# Altium integrated library ST Audio Surround Sound Processor.IntLib: 10 symbols
Pins are listed as number, name and electrical type; pins without a type are passive.

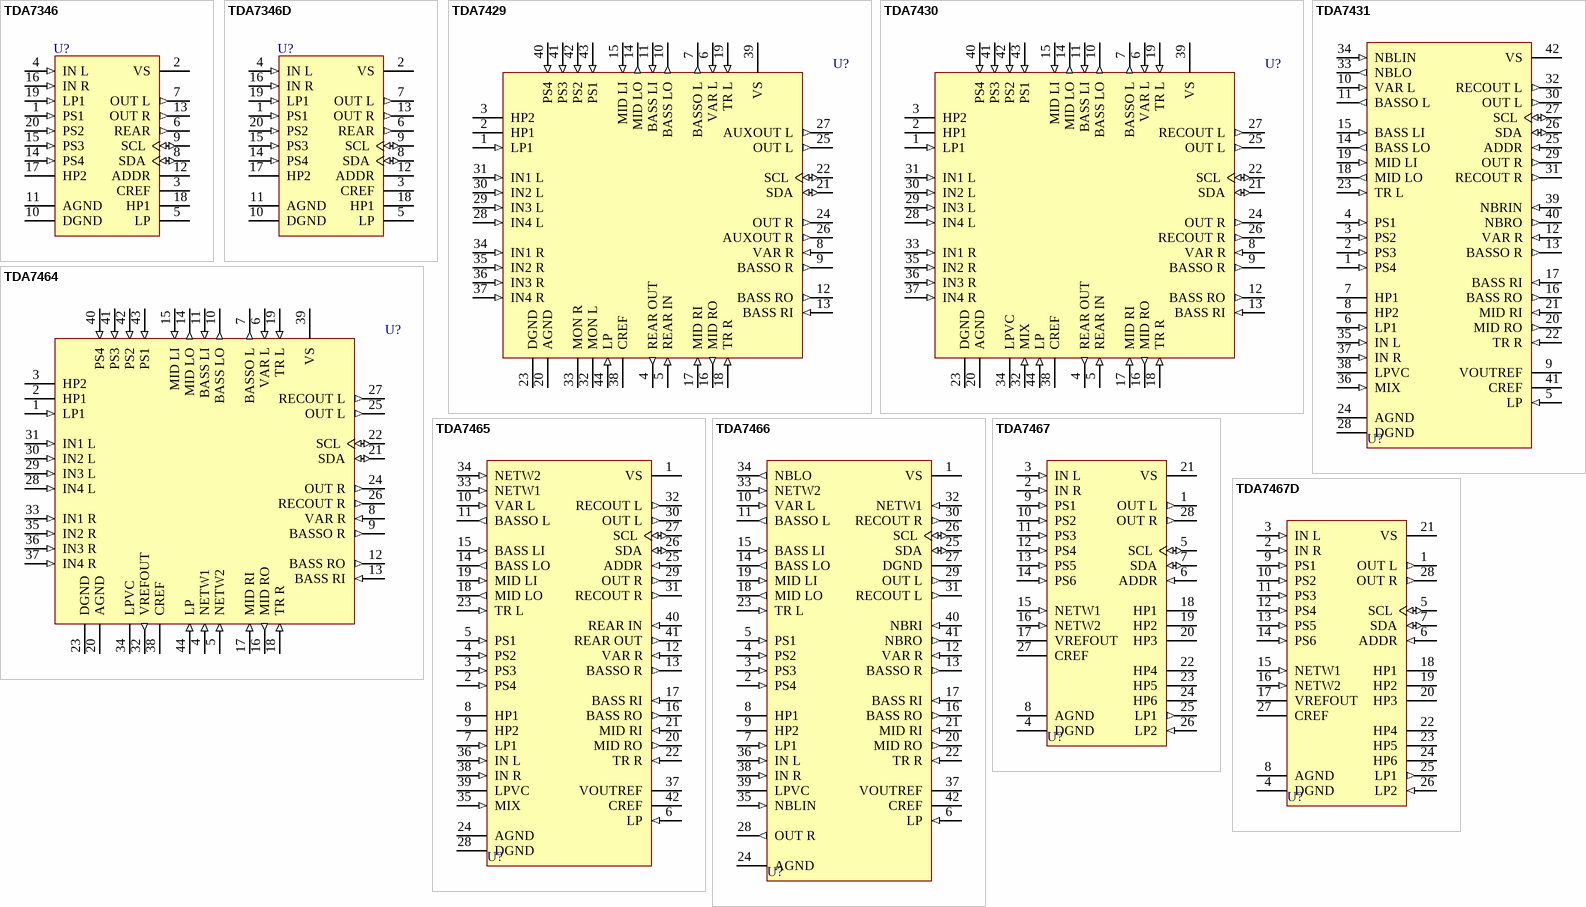
[diagram p0: symbols TDA7346 to TDA7467D]

## TDA7346
designator U?
Digital-Controlled Surround Sound Matrix; Published: 24-Aug-2001; LatestRevisionDate: 17-Jul-2002; LatestRevisionNote: Re-released for DXP Platform.; DatasheetDocument: Feb-1997; PackageDocument: Jun-1998; PackageReference: DIP20; Publisher: Altium Limited; Code_JEDEC: MS-015-AE
footprint DIP20 (DIP; 20 Leads; Row Spacing 7.62 mm; Pitch 2.54 mm)
pins: 1 PS1 (in), 2 VS (power), 3 CREF, 4 IN L (in), 5 LP, 6 REAR (out), 7 OUT L (out), 8 SDA (io), 9 SCL (io), 10 DGND (power), 11 AGND (power), 12 ADDR, 13 OUT R (out), 14 PS4 (in), 15 PS3 (in), 16 IN R (in), 17 HP2, 18 HP1, 19 LP1 (in), 20 PS2 (in)

## TDA7346D
designator U?
Digital-Controlled Surround Sound Matrix; Published: 24-Aug-2001; LatestRevisionDate: 17-Jul-2002; LatestRevisionNote: Re-released for DXP Platform.; DatasheetDocument: Feb-1997; PackageDocument: Jul-2001; PackageReference: SO20; Publisher: Altium Limited; Code_JEDEC: MS-013-AC; Code_IPC: SO20W
footprint SO20 (Small Outline, Plastic; 20 Leads; Body Width 7.5 mm; Pitch 1.27 mm)
pins: 1 PS1 (in), 2 VS (power), 3 CREF, 4 IN L (in), 5 LP, 6 REAR (out), 7 OUT L (out), 8 SDA (io), 9 SCL (io), 10 DGND (power), 11 AGND (power), 12 ADDR, 13 OUT R (out), 14 PS4 (in), 15 PS3 (in), 16 IN R (in), 17 HP2, 18 HP1, 19 LP1 (in), 20 PS2 (in)

## TDA7429
designator U?
Digital-Controlled Audio Processor with Surround Sound Matrix; Published: 24-Aug-2001; LatestRevisionDate: 17-Jul-2002; LatestRevisionNote: Re-released for DXP Platform.; DatasheetDocument: Nov-1996; PackageDocument: Oct-1997; PackageReference: TQFP44-10X10; Publisher: Altium Limited
footprint TQFP44-10X10 (QFP; 44 Leads; Body 10 x 10 mm; Pitch 0.8 mm)
pins: 1 LP1 (in), 2 HP1, 3 HP2, 4 REAR OUT (out), 5 REAR IN (in), 6 VAR L (in), 7 BASSO L (out), 8 VAR R (in), 9 BASSO R (out), 10 BASS LO (out), 11 BASS LI (in), 12 BASS RO (out), 13 BASS RI (in), 14 MID LO (out), 15 MID LI (in), 16 MID RO (out), 17 MID RI (in), 18 TR R (in), 19 TR L (in), 20 AGND (power), 21 SDA (io), 22 SCL (io), 23 DGND (power), 24 OUT R (out), 25 OUT L (out), 26 AUXOUT R (out), 27 AUXOUT L (out), 28 IN4 L (in), 29 IN3 L (in), 30 IN2 L (in), 31 IN1 L (in), 32 MON L, 33 MON R, 34 IN1 R (in), 35 IN2 R (in), 36 IN3 R (in), 37 IN4 R (in), 38 CREF, 39 VS (power), 40 PS4 (in), 41 PS3 (in), 42 PS2 (in), 43 PS1 (in), 44 LP (in)

## TDA7430
designator U?
Digital-Controlled Audio Processor with Surround Sound Matrix and Voice Canceller; Published: 24-Aug-2001; LatestRevisionDate: 17-Jul-2002; LatestRevisionNote: Re-released for DXP Platform.; DatasheetDocument: Sep-1999; PackageDocument: Oct-1997; PackageReference: TQFP44-10X10; Publisher: Altium Limited
footprint TQFP44-10X10 (QFP; 44 Leads; Body 10 x 10 mm; Pitch 0.8 mm)
pins: 1 LP1 (in), 2 HP1, 3 HP2, 4 REAR OUT (out), 5 REAR IN (in), 6 VAR L (in), 7 BASSO L (out), 8 VAR R (in), 9 BASSO R (out), 10 BASS LO (out), 11 BASS LI (in), 12 BASS RO (out), 13 BASS RI (in), 14 MID LO (out), 15 MID LI (in), 16 MID RO (out), 17 MID RI (in), 18 TR R (in), 19 TR L (in), 20 AGND (power), 21 SDA (io), 22 SCL (io), 23 DGND (power), 24 OUT R (out), 25 OUT L (out), 26 RECOUT R (out), 27 RECOUT L (out), 28 IN4 L (in), 29 IN3 L (in), 30 IN2 L (in), 31 IN1 L (in), 32 MIX (in), 33 IN1 R (in), 34 LPVC, 35 IN2 R (in), 36 IN3 R (in), 37 IN4 R (in), 38 CREF, 39 VS (power), 40 PS4 (in), 41 PS3 (in), 42 PS2 (in), 43 PS1 (in), 44 LP (in)

## TDA7431
designator U?
Digital-Controlled Audio Processor with Surround Sound Matrix and Voice Canceller; Published: 24-Aug-2001; LatestRevisionDate: 17-Jul-2002; LatestRevisionNote: Re-released for DXP Platform.; DatasheetDocument: Sep-1999; PackageDocument: Oct-2003; PackageReference: PSDIP42; Publisher: Altium Limited
footprint PSDIP42 (DIP, Plastic Shrink; 42 Leads; Row Spacing 15.24 mm; Pitch 1.78 mm)
pins: 1 PS4 (in), 2 PS3 (in), 3 PS2 (in), 4 PS1 (in), 5 LP (in), 6 LP1 (in), 7 HP1, 8 HP2, 9 VOUTREF, 10 VAR L (in), 11 BASSO L (out), 12 VAR R (in), 13 BASSO R (out), 14 BASS LO (out), 15 BASS LI (in), 16 BASS RO (out), 17 BASS RI (in), 18 MID LO (out), 19 MID LI (in), 20 MID RO (out), 21 MID RI (in), 22 TR R (in), 23 TR L (in), 24 AGND (power), 25 ADDR (in), 26 SDA (io), 27 SCL (io), 28 DGND (power), 29 OUT R (out), 30 OUT L (out), 31 RECOUT R (out), 32 RECOUT L (out), 33 NBLO (out), 34 NBLIN (in), 35 IN L (in), 36 MIX (in), 37 IN R (in), 38 LPVC, 39 NBRIN (in), 40 NBRO (out), 41 CREF, 42 VS (power)

## TDA7464
designator U?
Digital-Controlled Audio Processor with SRS Surround Sound and Voice Canceller; Published: 24-Aug-2001; LatestRevisionDate: 17-Jul-2002; LatestRevisionNote: Re-released for DXP Platform.; DatasheetDocument: Feb-1998; PackageDocument: Oct-1997; PackageReference: TQFP44-10X10; Publisher: Altium Limited
footprint TQFP44-10X10 (QFP; 44 Leads; Body 10 x 10 mm; Pitch 0.8 mm)
pins: 1 LP1 (in), 2 HP1, 3 HP2, 4 NETW1 (in), 5 NETW2 (in), 6 VAR L (in), 7 BASSO L (out), 8 VAR R (in), 9 BASSO R (out), 10 BASS LO (out), 11 BASS LI (in), 12 BASS RO (out), 13 BASS RI (in), 14 MID LO (out), 15 MID LI (in), 16 MID RO (out), 17 MID RI (in), 18 TR R (in), 19 TR L (in), 20 AGND (power), 21 SDA (io), 22 SCL (io), 23 DGND (power), 24 OUT R (out), 25 OUT L (out), 26 RECOUT R (out), 27 RECOUT L (out), 28 IN4 L (in), 29 IN3 L (in), 30 IN2 L (in), 31 IN1 L (in), 32 VREFOUT (out), 33 IN1 R (in), 34 LPVC, 35 IN2 R (in), 36 IN3 R (in), 37 IN4 R (in), 38 CREF, 39 VS (power), 40 PS4 (in), 41 PS3 (in), 42 PS2 (in), 43 PS1 (in), 44 LP (in)

## TDA7465
designator U?
Digital-Controlled Audio Processor with SRS Surround Sound and Voice Canceller; Published: 24-Aug-2001; LatestRevisionDate: 17-Jul-2002; LatestRevisionNote: Re-released for DXP Platform.; DatasheetDocument: May-1997; PackageDocument: Oct-2003; PackageReference: PSDIP42; Publisher: Altium Limited
footprint PSDIP42 (DIP, Plastic Shrink; 42 Leads; Row Spacing 15.24 mm; Pitch 1.78 mm)
pins: 1 VS (power), 2 PS4 (in), 3 PS3 (in), 4 PS2 (in), 5 PS1 (in), 6 LP (in), 7 LP1 (in), 8 HP1, 9 HP2, 10 VAR L (in), 11 BASSO L (out), 12 VAR R (in), 13 BASSO R (out), 14 BASS LO (out), 15 BASS LI (in), 16 BASS RO (out), 17 BASS RI (in), 18 MID LO (out), 19 MID LI (in), 20 MID RO (out), 21 MID RI (in), 22 TR R (in), 23 TR L (in), 24 AGND (power), 25 ADDR (in), 26 SDA (io), 27 SCL (io), 28 DGND (power), 29 OUT R (out), 30 OUT L (out), 31 RECOUT R (out), 32 RECOUT L (out), 33 NETW1 (in), 34 NETW2 (in), 35 MIX (in), 36 IN L (in), 37 VOUTREF, 38 IN R (in), 39 LPVC, 40 REAR IN (in), 41 REAR OUT (out), 42 CREF

## TDA7466
designator U?
Digital-Controlled Audio Processor with SRS Surround Sound and Voice Canceller; Published: 24-Aug-2001; LatestRevisionDate: 17-Jul-2002; LatestRevisionNote: Re-released for DXP Platform.; DatasheetDocument: May-1997; PackageDocument: Oct-2003; PackageReference: PSDIP42; Publisher: Altium Limited
footprint PSDIP42 (DIP, Plastic Shrink; 42 Leads; Row Spacing 15.24 mm; Pitch 1.78 mm)
pins: 1 VS (power), 2 PS4 (in), 3 PS3 (in), 4 PS2 (in), 5 PS1 (in), 6 LP (in), 7 LP1 (in), 8 HP1, 9 HP2, 10 VAR L (in), 11 BASSO L (out), 12 VAR R (in), 13 BASSO R (out), 14 BASS LO (out), 15 BASS LI (in), 16 BASS RO (out), 17 BASS RI (in), 18 MID LO (out), 19 MID LI (in), 20 MID RO (out), 21 MID RI (in), 22 TR R (in), 23 TR L (in), 24 AGND (power), 25 SDA (io), 26 SCL (io), 27 DGND (power), 28 OUT R (out), 29 OUT L (out), 30 RECOUT R (out), 31 RECOUT L (out), 32 NETW1 (in), 33 NETW2 (in), 34 NBLO (out), 35 NBLIN (in), 36 IN L (in), 37 VOUTREF, 38 IN R (in), 39 LPVC, 40 NBRI (in), 41 NBRO (out), 42 CREF

## TDA7467
designator U?
Audio Matrix with SRS Effects; Published: 24-Aug-2001; LatestRevisionDate: 17-Jul-2002; LatestRevisionNote: Re-released for DXP Platform.; DatasheetDocument: May-1997; PackageDocument: Jan-2003; PackageReference: PDIP28; Publisher: Altium Limited
footprint PDIP28 (DIP; 28 Leads; Row Spacing 15.24 mm; Pitch 2.54 mm)
pins: 1 OUT L (out), 2 IN R (in), 3 IN L (in), 4 DGND (power), 5 SCL (io), 6 ADDR (in), 7 SDA (io), 8 AGND (power), 9 PS1 (in), 10 PS2 (in), 11 PS3 (in), 12 PS4 (in), 13 PS5 (in), 14 PS6 (in), 15 NETW1 (in), 16 NETW2 (in), 17 VREFOUT, 18 HP1, 19 HP2, 20 HP3, 21 VS (power), 22 HP4, 23 HP5, 24 HP6, 25 LP1 (out), 26 LP2 (in), 27 CREF, 28 OUT R (out)

## TDA7467D
designator U?
Audio Matrix with SRS Effects; Published: 24-Aug-2001; LatestRevisionDate: 17-Jul-2002; LatestRevisionNote: Re-released for DXP Platform.; DatasheetDocument: May-1997; PackageDocument: Jul-2001; PackageReference: SO28; Publisher: Altium Limited; Code_IPC: SO28W
footprint SO28 (Small Outline, Plastic; 28 Leads; Body Width 7.5 mm; Pitch 1.27 mm)
pins: 1 OUT L (out), 2 IN R (in), 3 IN L (in), 4 DGND (power), 5 SCL (io), 6 ADDR (in), 7 SDA (io), 8 AGND (power), 9 PS1 (in), 10 PS2 (in), 11 PS3 (in), 12 PS4 (in), 13 PS5 (in), 14 PS6 (in), 15 NETW1 (in), 16 NETW2 (in), 17 VREFOUT, 18 HP1, 19 HP2, 20 HP3, 21 VS (power), 22 HP4, 23 HP5, 24 HP6, 25 LP1 (out), 26 LP2 (in), 27 CREF, 28 OUT R (out)